# EAGLE library part L6598D (library ST Microelctronics_By_element14_Batch_1)
High voltage resonant controller
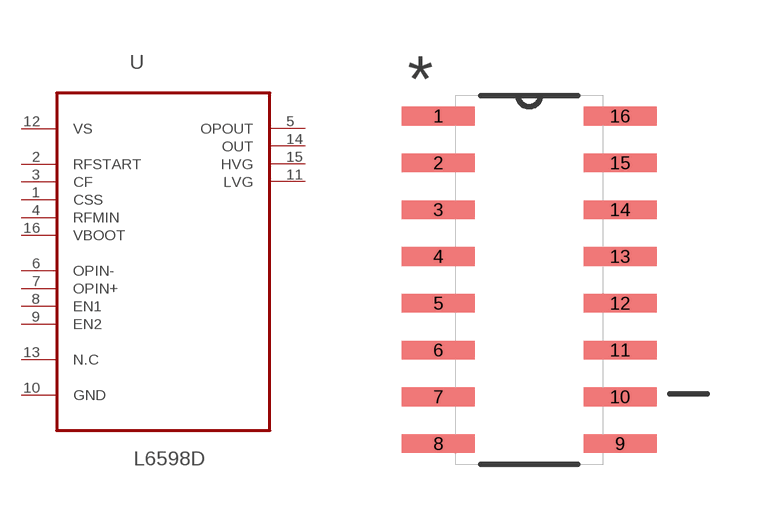
[diagram p51: symbol with the pads of SOIC127P600X175-16N; footprint SOIC127P600X175-16N]

Designator prefix U

## L6598D (MPN: L6598D; OC_FARNELL: 1271021; OC_NEWARK: 26M0521; PACKAGE: SO-16; SUPPLIER: STMICROELECTRONICS)  [SOIC127P600X175-16N]
1  CSS  pas
2  RFSTART  pas
3  CF  pas
4  RFMIN  in
5  OPOUT  out
6  OPIN-  in
7  OPIN+  in
8  EN1  in
9  EN2  in
10  GND  pas
11  LVG  out
12  VS  pwr
13  N.C  nc
14  OUT  out
15  HVG  out
16  VBOOT  pwr

## Footprint SOIC127P600X175-16N (pad centres in mm)
smd 1.981 x 0.508: 1 -2.464,4.445; 2 -2.464,3.175; 3 -2.464,1.905; 4 -2.464,0.635; 5 -2.464,-0.635; 6 -2.464,-1.905; 7 -2.464,-3.175; 8 -2.464,-4.445; 9 2.464,-4.445; 10 2.464,-3.175; 11 2.464,-1.905; 12 2.464,-0.635; 13 2.464,0.635; 14 2.464,1.905; 15 2.464,3.175; 16 2.464,4.445